# Altium schematic symbol library SG_GOST_Main.SchLib: 12 symbols
Pins are listed as number, name and electrical type; pins without a type are passive.

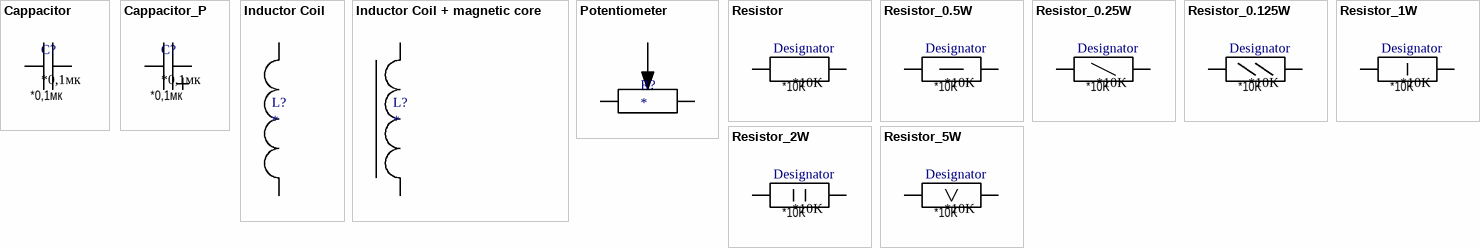
[diagram p0: symbols Cappacitor to Resistor_5W]

## Cappacitor
designator C?, comment *0,1мк
Конденсатор постоянной емкости; Manufacturer: YAGEO; ManufacturerCountry: Taiwan; Voltage: 9; Tolerance: J; PackingType: R; TemperatureCoef: NPO; SerialNumber: CC*0603JRNPO9*104; OrderValue: *104; Order: =SerialNumber + ', ' + Manufacturer + ', ' + ManufacturerCountry; Footprint: *0603; Value: *0,1мк
pins: 1, 2

## Cappacitor_P
designator C?, comment *0,1мк
Конденсатор полярный; Manufacturer: YAGEO; ManufacturerCountry: Taiwan; Voltage: 9; Tolerance: J; PackingType: R; TemperatureCoef: NPO; SerialNumber: CC*0603JRNPO9*104; OrderValue: *104; Order: =SerialNumber + ', ' + Manufacturer + ', ' + ManufacturerCountry; Footprint: *0603; Value: *0,1мк
footprint TECAP D
pins: 1, 2

## Inductor Coil
designator L?
Катушка Индуктивности; Order: Катушка Индуктивности *, *, *; Value: *; ManufacturerCountry: *; Manufacturer: *
pins: 1, 2

## Inductor Coil + magnetic core
designator L?
Катушка Индуктивности с магнитопроводом; Order: Катушка Индуктивности *, *, *; Manufacturer: *; ManufacturerCountry: *; Value: *
footprint CHIP-1210N
pins: 1, 2

## Potentiometer
designator R?
Потенциометр; Order: Потенциометр*, *, *; Manufacturer: *; ManufacturerCountry: *; Value: *
pins: 1, 2, 3

## Resistor
designator Designator, comment *10K
Резистор постоянный; Manufacturer: YAGEO; Tolerance: J; СountryOfOrigin: Taiwan; SerialNumDatasheet: RC*0603JR-07*10KL; PackingType: R; TapingReel: 07; Order: =SerialNumDatasheet + ', ' + Manufacturer + ', ' + СountryOfOrigin; Package: *0603; Power: *; Value: *10K
pins: 1, 2

## Resistor_0.5W
designator Designator, comment *10K
Резистор постоянный; Manufacturer: YAGEO; Tolerance: J; СountryOfOrigin: Taiwan; SerialNumDatasheet: RC*0603JR-07*10KL; PackingType: R; TapingReel: 07; Power: 0,5Вт; Order: =SerialNumDatasheet + ', ' + Manufacturer + ', ' + СountryOfOrigin; Package: *0603; Value: *10K
pins: 1, 2

## Resistor_0.25W
designator Designator, comment *10K
Резистор постоянный; Manufacturer: YAGEO; Tolerance: J; СountryOfOrigin: Taiwan; SerialNumDatasheet: RC*0603JR-07*10KL; PackingType: R; TapingReel: 07; Power: 0,25Вт; Order: =SerialNumDatasheet + ', ' + Manufacturer + ', ' + СountryOfOrigin; Package: *0603; Value: *10K
pins: 1, 2

## Resistor_0.125W
designator Designator, comment *10K
Резистор постоянный; Manufacturer: YAGEO; Tolerance: J; СountryOfOrigin: Taiwan; SerialNumDatasheet: RC*0603JR-07*10KL; PackingType: R; TapingReel: 07; Power: 0,125Вт; Order: =SerialNumDatasheet + ', ' + Manufacturer + ', ' + СountryOfOrigin; Package: *0603; Value: *10K
pins: 1, 2

## Resistor_1W
designator Designator, comment *10K
Резистор постоянный; Manufacturer: YAGEO; Tolerance: J; СountryOfOrigin: Taiwan; SerialNumDatasheet: RC*0603JR-07*10KL; PackingType: R; TapingReel: 07; Power: 1Вт; Order: =SerialNumDatasheet + ', ' + Manufacturer + ', ' + СountryOfOrigin; Package: *0603; Value: *10K
pins: 1, 2

## Resistor_2W
designator Designator, comment *10K
Резистор постоянный; Manufacturer: YAGEO; Tolerance: J; СountryOfOrigin: Taiwan; SerialNumDatasheet: RC*0603JR-07*10KL; PackingType: R; TapingReel: 07; Power: 2Вт; Order: =SerialNumDatasheet + ', ' + Manufacturer + ', ' + СountryOfOrigin; Package: *0603; Value: *10K
pins: 1, 2

## Resistor_5W
designator Designator, comment *10K
Резистор постоянный; Manufacturer: YAGEO; Tolerance: J; СountryOfOrigin: Taiwan; SerialNumDatasheet: RC*0603JR-07*10KL; PackingType: R; TapingReel: 07; Power: 5Вт; Order: =SerialNumDatasheet + ', ' + Manufacturer + ', ' + СountryOfOrigin; Package: *0603; Value: *10K
pins: 1, 2